# Altium schematic symbol library Term,Block,2 Pin,Side Entry,5mm,Thru.Schlib: 1 symbol
Pins are listed as number, name and electrical type; pins without a type are passive.

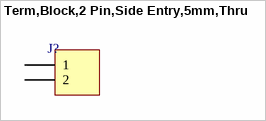
[diagram p0: symbol Term,Block,2 Pin,Side Entry,5mm,Thru]

## Term,Block,2 Pin,Side Entry,5mm,Thru
designator J?
pins: 1, 2